# Altium footprint library SOT65P210X90-3N.PcbLib: 1 footprints
Each footprint in its own frame and in the unit in brackets; x right, y up, seen from the top. Pads: shape width x height; smd on the part's side, far side on the other; paste and mask are expansions set on the pad; w line width, h text height; cw(c..) or ccw(c..) is an arc to the next point about the centre after c.
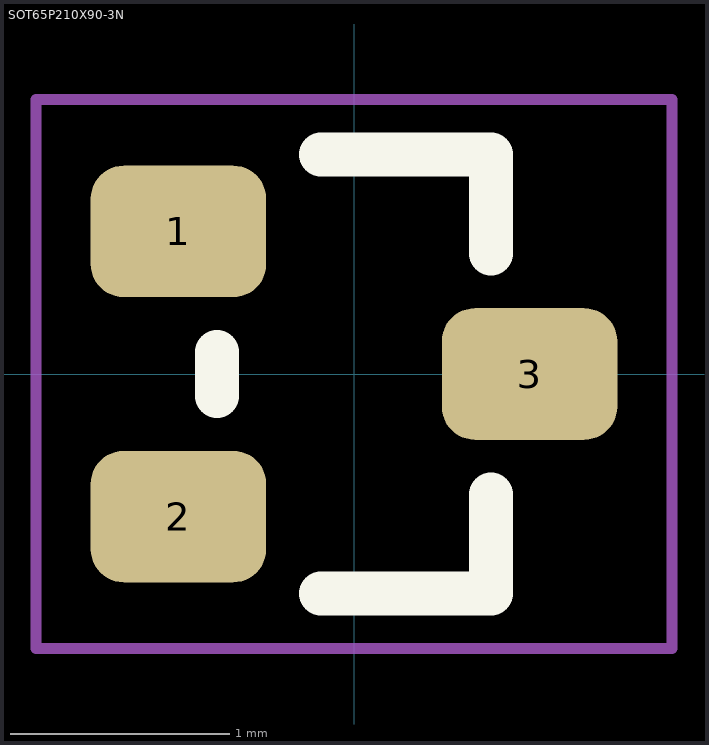
[diagram p0: the footprint, top view; thin cyan lines are the x and y axes]

## SOT65P210X90-3N [mm] "SOT23, 3-Leads, Body 2.00x2.10mm, Pitch 0.65mm, IPC Medium Density"
height 0.9
pads (3):
  rrect50% 0.8x0.6 smd: 1(-0.8,0.65) 2(-0.8,-0.65) 3(0.8,0)
Top Overlay:
  lines w0.2: -0.625,-0.1 -0.625,0.1 ; -0.15,-1 0.625,-1 0.625,-0.55 ; -0.15,1 0.625,1 0.625,0.55
Top Courtyard:
  lines w0.05: -1.45,-1.25 -1.45,1.25 1.45,1.25 1.45,-1.25 -1.45,-1.25
3D body "SOT65P210X90-3N.step": height 0.9, standoff 0.02, extent -1.025,-1 1.025,1